# Altium footprint library KongTiaoT.PcbLib: 5 footprints
Each footprint in its own frame and in the unit in brackets; x right, y up, seen from the top. Pads: shape width x height; smd on the part's side, far side on the other; paste and mask are expansions set on the pad; w line width, h text height; cw(c..) or ccw(c..) is an arc to the next point about the centre after c.
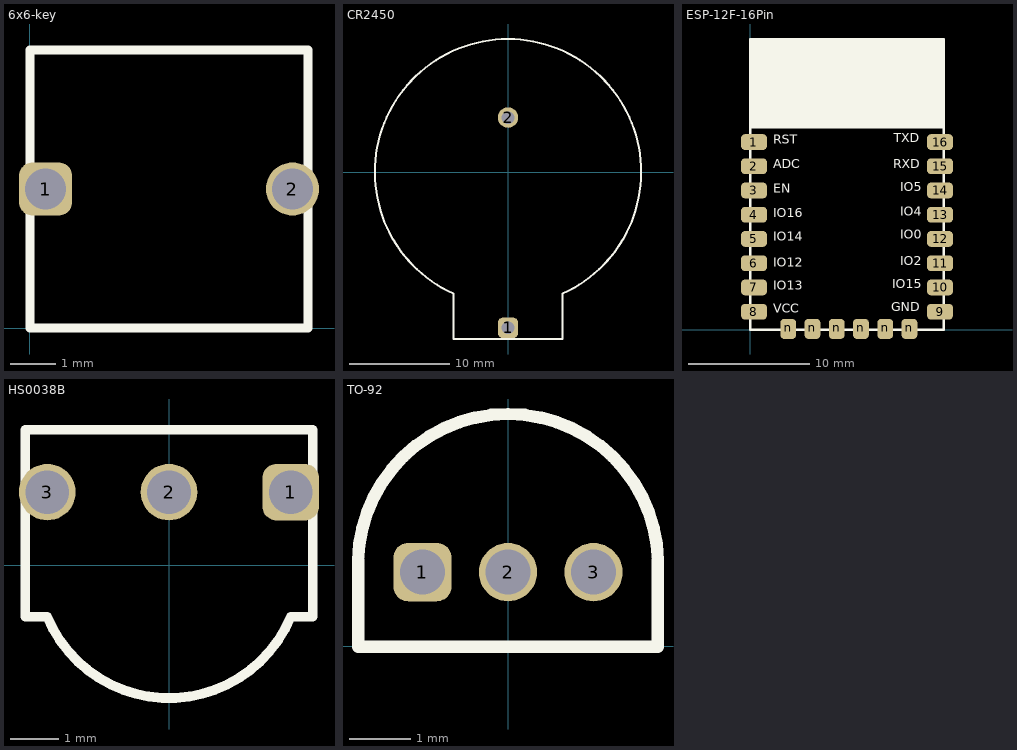
[diagram p0: the footprints below, top view; thin cyan lines are the x and y axes]

## 6x6-key [mm]
pads (2):
  rrect50% 1.183x1.183 hole 0.91: 1(0.35,3.1)
  round 1.183 hole 0.91: 2(5.85,3.1)
Top Overlay:
  lines w0.203: 0,0 6.2,0 6.2,6.2 0,6.2 0,0

## CR2450 [mil]
pads (2):
  rrect50% 80x80 hole 49: 1(0,-609.25)
  round 80 hole 49: 2(0,213.58)
Top Overlay:
  lines w8: -212.6,-652.56 -212.6,-475.29 cw(c0,0) 212.6,-475.29 212.6,-652.56 -212.6,-652.56

## ESP-12F-16Pin [mm]
pads (22):
  rrect50% 2.145x1.3 smd: 1(0.323,15.5) 2(0.323,13.5) 3(0.323,11.5) 4(0.323,9.5) 5(0.323,7.5) 6(0.323,5.5) 7(0.323,3.5) 8(0.323,1.5) 9(15.676,1.5) 10(15.676,3.5) 11(15.676,5.5) 12(15.676,7.5) 13(15.676,9.5) 14(15.676,11.5) 15(15.676,13.5) 16(15.676,15.5)
  rrect50% 1.3x1.67 smd: n(3.15,0.081) n(5.15,0.081) n(7.15,0.081) n(9.15,0.081) n(11.15,0.081) n(13.15,0.081)
Top Overlay:
  region: 0,24 16,24 16,16.639 16.002,16.637 0,16.637
  lines w0.203: 0,0 0,24 16,24 16,0 0,0
  text "RST" at 1.905,15.126 h1.27
  text "ADC" at 1.905,13.094 h1.27
  text "EN" at 1.905,11.049 h1.27
  text "IO16" at 1.905,9.03 h1.27
  text "IO14" at 1.905,7.125 h1.27
  text "IO12" at 1.905,4.966 h1.27
  text "IO13" at 1.905,3.061 h1.27
  text "VCC" at 1.906,1.156 h1.27
  text "GND" at 11.656,1.283 h1.27
  text "IO15" at 11.749,3.188 h1.27
  text "IO2" at 12.396,5.093 h1.27
  text "IO0" at 12.39,7.252 h1.27
  text "IO4" at 12.39,9.157 h1.27
  text "IO5" at 12.382,11.189 h1.27
  text "RXD" at 11.811,13.081 h1.27
  text "TXD" at 11.875,15.24 h1.27

## HS0038B [mm]
pads (3):
  rrect50% 1.183x1.183 hole 0.91: 1(2.54,1.524)
  round 1.183 hole 0.91: 2(0,1.524) 3(-2.54,1.524)
Top Overlay:
  lines w0.203: -3,-1.076 -3,2.824 3,2.824 3,-1.076 2.542,-1.076 cw(c0,-0.026) -2.542,-1.076 -3,-1.076

## TO-92 [mil]
pads (3):
  rrect50% 37.52x37.52 hole 28.86: 1(-55,47.81)
  round 37.52 hole 28.86: 2(0,47.81) 3(55,47.81)
Top Overlay:
  lines w8: -96.46,-0.07 96.46,-0.07 96.46,55.05 ccw(c0,53.06) -96.46,55.05 -96.46,-0.07